# Altium schematic symbol library EL-sense_Logic_Gates.SchLib: 2 symbols
Pins are listed as number, name and electrical type; pins without a type are passive.

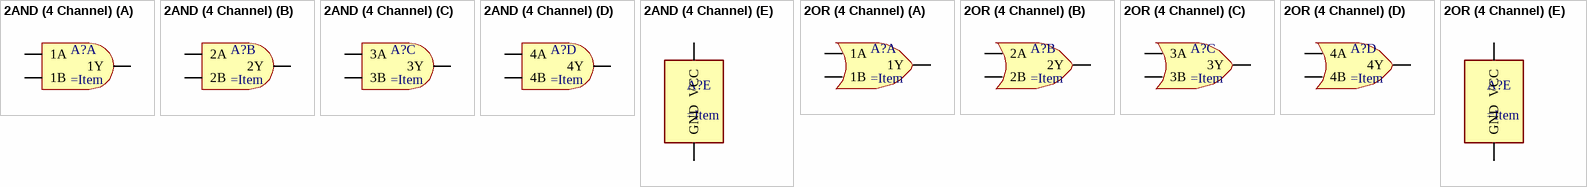
[diagram p0: symbols 2AND (4 Channel) to 2OR (4 Channel)]

## 2AND (4 Channel)
designator A?
part A pins: 1A, 1B, 1Y
part B pins: 2A, 2B, 2Y
part C pins: 3A, 3B, 3Y
part D pins: 4A, 4B, 4Y
part E pins: GND, VCC

## 2OR (4 Channel)
designator A?
part A pins: 1A, 1B, 1Y
part B pins: 2A, 2B, 2Y
part C pins: 3A, 3B, 3Y
part D pins: 4A, 4B, 4Y
part E pins: GND, VCC